# EAGLE library part SN74*240 (library xess)
Octal Inverting Buffer/Driver
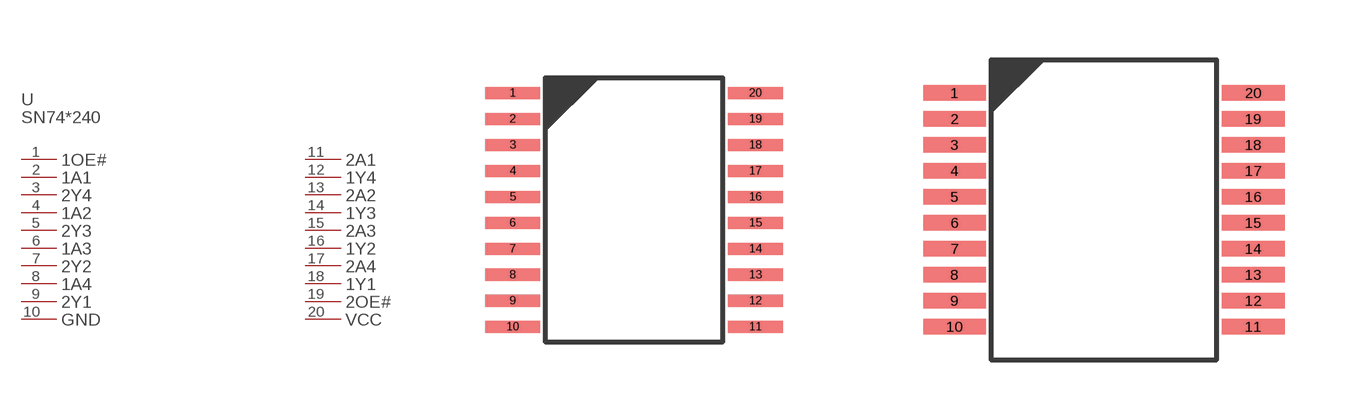
[diagram p70: symbol with the pads of SN74*240PW; footprints SN74*240PW, SN74*240DB]

Designator prefix U; gates PART_VALUE=PART_VALUE-SN74*240PW 1OE#=PL-SN74*240PW 1A1=PL-SN74*240PW 2Y4=PL-SN74*240PW 1A2=PL-SN74*240PW 2Y3=PL-SN74*240PW 1A3=PL-SN74*240PW 2Y2=PL-SN74*240PW 1A4=PL-SN74*240PW 2Y1=PL-SN74*240PW GND=PL-SN74*240PW 2A1=PL-SN74*240PW 1Y4=PL-SN74*240PW 2A2=PL-SN74*240PW 1Y3=PL-SN74*240PW 2A3=PL-SN74*240PW 1Y2=PL-SN74*240PW 2A4=PL-SN74*240PW 1Y1=PL-SN74*240PW 2OE#=PL-SN74*240PW VCC=PL-SN74*240PW

## SN74240PW  [SN74*240PW]
1  1OE#:P$1
2  1A1:P$1
3  2Y4:P$1
4  1A2:P$1
5  2Y3:P$1
6  1A3:P$1
7  2Y2:P$1
8  1A4:P$1
9  2Y1:P$1
10  GND:P$1
11  2A1:P$1
12  1Y4:P$1
13  2A2:P$1
14  1Y3:P$1
15  2A3:P$1
16  1Y2:P$1
17  2A4:P$1
18  1Y1:P$1
19  2OE#:P$1
20  VCC:P$1

## SN74240DB  [SN74*240DB]
Pads as for SN74*240PW

## SN74240DW  [SN74*240DW]
Pads as for SN74*240PW

## SN74240NS  [SN74*240NS]
Pads as for SN74*240PW

## Footprint SN74*240PW (pad centres in mm)
smd 1.37 x 0.3: 1 -0.11,0; 2 -0.11,-0.65; 3 -0.11,-1.3; 4 -0.11,-1.95; 5 -0.11,-2.6; 6 -0.11,-3.25; 7 -0.11,-3.9; 8 -0.11,-4.55; 9 -0.11,-5.2; 10 -0.11,-5.85; 11 5.96,-5.85; 12 5.96,-5.2; 13 5.96,-4.55; 14 5.96,-3.9; 15 5.96,-3.25; 16 5.96,-2.6; 17 5.96,-1.95; 18 5.96,-1.3; 19 5.96,-0.65; 20 5.96,0

## Footprint SN74*240DB (pad centres in mm)
smd 1.57 x 0.38: 1 -0.11,0; 2 -0.11,-0.65; 3 -0.11,-1.3; 4 -0.11,-1.95; 5 -0.11,-2.6; 6 -0.11,-3.25; 7 -0.11,-3.9; 8 -0.11,-4.55; 9 -0.11,-5.2; 10 -0.11,-5.85; 11 7.36,-5.85; 12 7.36,-5.2; 13 7.36,-4.55; 14 7.36,-3.9; 15 7.36,-3.25; 16 7.36,-2.6; 17 7.36,-1.95; 18 7.36,-1.3; 19 7.36,-0.65; 20 7.36,0

## Footprint SN74*240DW (pad centres in mm)
smd 1.89 x 0.51: 1 -0.11,0; 2 -0.11,-1.27; 3 -0.11,-2.54; 4 -0.11,-3.81; 5 -0.11,-5.08; 6 -0.11,-6.35; 7 -0.11,-7.62; 8 -0.11,-8.89; 9 -0.11,-10.16; 10 -0.11,-11.43; 11 9.47,-11.43; 12 9.47,-10.16; 13 9.47,-8.89; 14 9.47,-7.62; 15 9.47,-6.35; 16 9.47,-5.08; 17 9.47,-3.81; 18 9.47,-2.54; 19 9.47,-1.27; 20 9.47,0

## Footprint SN74*240NS (pad centres in mm)
smd 1.67 x 0.51: 1 -0.11,0; 2 -0.11,-1.27; 3 -0.11,-2.54; 4 -0.11,-3.81; 5 -0.11,-5.08; 6 -0.11,-6.35; 7 -0.11,-7.62; 8 -0.11,-8.89; 9 -0.11,-10.16; 10 -0.11,-11.43; 11 7.26,-11.43; 12 7.26,-10.16; 13 7.26,-8.89; 14 7.26,-7.62; 15 7.26,-6.35; 16 7.26,-5.08; 17 7.26,-3.81; 18 7.26,-2.54; 19 7.26,-1.27; 20 7.26,0